# Altium footprint library Tesis.PcbLib: 24 footprints (part 2 of 2)
Each footprint in its own frame and in the unit in brackets; x right, y up, seen from the top. Pads: shape width x height; smd on the part's side, far side on the other; paste and mask are expansions set on the pad; w line width, h text height; cw(c..) or ccw(c..) is an arc to the next point about the centre after c.
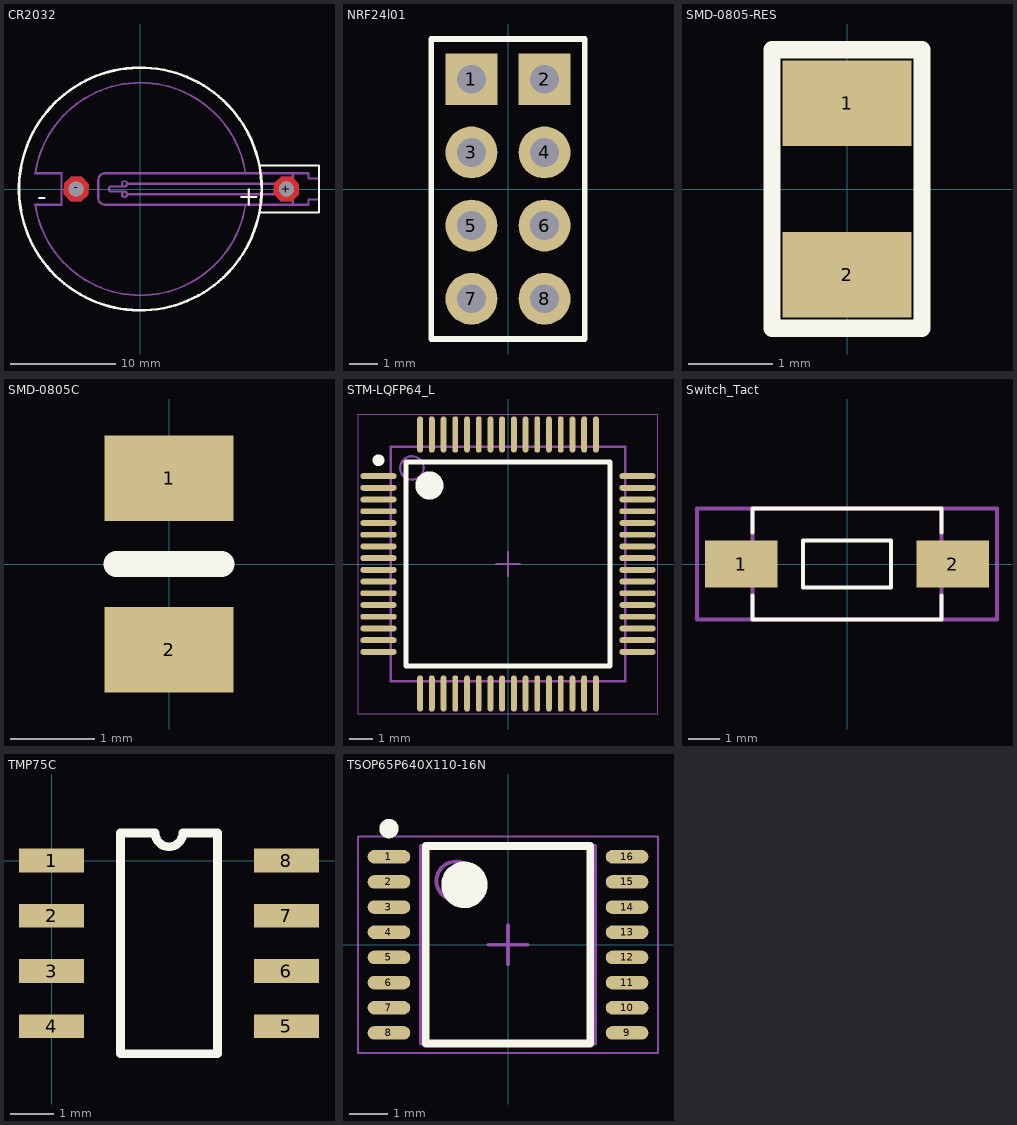
[diagram p1: the footprints below, top view; thin cyan lines are the x and y axes]

## CR2032 [mil]
pads (2):
  round 56 hole 56: +(547.24,0) -(-240.16,0)
Top Layer:
  region: -193.17,17.1 -219.03,45.32 -257.26,46.98 -285.47,21.13 -287.14,-17.1 -261.29,-45.32 -223.06,-46.98 -194.84,-21.13
  region: 594.23,17.1 568.38,45.32 530.14,46.98 501.93,21.13 500.26,-17.1 526.11,-45.32 564.35,-46.98 592.56,-21.13
Bottom Layer:
  region: -193.17,17.1 -219.03,45.32 -257.26,46.98 -285.47,21.13 -287.14,-17.1 -261.29,-45.32 -223.06,-46.98 -194.84,-21.13
  region: 594.23,17.1 568.38,45.32 530.14,46.98 501.93,21.13 500.26,-17.1 526.11,-45.32 564.35,-46.98 592.56,-21.13
Top Overlay:
  circle w10: c0,0 r454.46
  lines w8: 452.76,-87.8 669.29,-87.8 669.29,87.8 452.76,87.8
  text "-" at -385.23,-62.88 h73.82
  text "+" at 364.96,-62.8 h73.82
Mechanical 1:
  circle w8: c-59.21,-19.76 r10
  circle w5: c-59.21,19.76 r10
  lines w5: -118.11,-0.16 -118.11,0.16 ; -49.21,-19.84 -49.21,-19.68
  lines w7: -393.2,-62.28 ccw(c0,0) 393.2,-62.28 ; -393.2,62.28 cw(c0,0) 393.2,62.28
  lines w8: -393.7,-59.06 -295.28,-59.06 -295.28,59.06 -393.7,59.06 ; -118.11,-0.16 cw(c-108.11,-0.16) -108.11,9.84 -59.21,9.84 ccw(c-59.21,19.84) -49.21,19.67 ; -118.11,0.16 ccw(c-108.11,0.16) -108.11,-9.84 -59.21,-9.84 cw(c-59.21,-19.84) -49.21,-19.67 ; -49.21,-19.68 570.87,-19.68 ; -49.21,19.84 -49.21,19.68 570.87,19.68 ; 669.29,-39.37 629.92,-39.37 629.92,-59.06 570.87,-59.06 ; 669.29,39.37 629.92,39.37 629.92,59.06 570.87,59.06 ; 570.87,-59.06 393.7,-59.06 -132.48,-59.06 cw(c-132.48,-34.06) -157.48,-34.06 -157.48,34.06 cw(c-132.48,34.06) -132.48,59.06 393.7,59.06 570.87,59.06 ; 570.87,-59.06 570.87,-19.68 ; 570.87,-19.68 570.87,19.68 ; 570.87,19.68 570.87,59.06
Multi-Layer:
  region: -193.17,17.1 -219.03,45.32 -257.26,46.98 -285.47,21.13 -287.14,-17.1 -261.29,-45.32 -223.06,-46.98 -194.84,-21.13
  region: 594.23,17.1 568.38,45.32 530.14,46.98 501.93,21.13 500.26,-17.1 526.11,-45.32 564.35,-46.98 592.56,-21.13
3D body "User Library-CR 2032 (Battery Holder).step": height 218.5, standoff -196.85, extent -447.83,-447.83 682.09,447.84

## NRF24l01 [mm] "2.4 Ghz Transiever by Nordic."
height 8.54
pads (8):
  rect 1.8x1.8 hole 1: 1(-1.27,3.81) 2(1.27,3.81)
  round 1.8 hole 1: 3(-1.27,1.27) 4(1.27,1.27) 5(-1.27,-1.27) 6(1.27,-1.27) 7(-1.27,-3.81) 8(1.27,-3.81)
Top Overlay:
  lines w0.2: -2.667,-5.207 -2.667,5.207 2.667,5.207 2.667,-5.207 -2.667,-5.207
3D body "1x4x2.54 Pin Header TH  V.STEP": height 8.55, standoff -2.99, extent -2.54,-5.08 0,5.08
3D body "1x4x2.54 Pin Header TH  V.STEP": height 8.55, standoff -2.99, extent 0,-5.08 2.54,5.08

## SMD-0805-RES [mil]
pads (2):
  rect 60x40 smd: 1(0,40) 2(0,-40)
Top Overlay:
  lines w8: -35,-65 -35,65 35,65 35,-65 -35,-65
3D body "SW3dPS-0805 SMD Resistor.STEP": height 30.79, standoff 0, extent -23.6,-39.36 25.6,39.38

## SMD-0805C [mil]
pads (2):
  rect 60x40 smd: 1(0,40) 2(0,-40)
Top Overlay:
  lines w12: -24.6,0.01 24.6,0.01
3D body "capacitor 0805.step": height 35.43, standoff 0, extent -24.6,-39.36 24.6,39.38

## STM-LQFP64_L [mm] "Thin QFP, 64-Leads, Body 10x10mm, Pitch 0.5mm, IPC High Density"
height 1.6
pads (64):
  oval 1.55x0.25 smd: 1(-5.525,3.75) 2(-5.525,3.25) 3(-5.525,2.75) 4(-5.525,2.25) 5(-5.525,1.75) 6(-5.525,1.25) 7(-5.525,0.75) 8(-5.525,0.25) 9(-5.525,-0.25) 10(-5.525,-0.75) 11(-5.525,-1.25) 12(-5.525,-1.75) 13(-5.525,-2.25) 14(-5.525,-2.75) 15(-5.525,-3.25) 16(-5.525,-3.75) 33(5.525,-3.75) 34(5.525,-3.25) 35(5.525,-2.75) 36(5.525,-2.25) 37(5.525,-1.75) 38(5.525,-1.25) 39(5.525,-0.75) 40(5.525,-0.25) 41(5.525,0.25) 42(5.525,0.75) 43(5.525,1.25) 44(5.525,1.75) 45(5.525,2.25) 46(5.525,2.75) 47(5.525,3.25) 48(5.525,3.75)
  oval 0.25x1.55 smd: 17(-3.75,-5.525) 18(-3.25,-5.525) 19(-2.75,-5.525) 20(-2.25,-5.525) 21(-1.75,-5.525) 22(-1.25,-5.525) 23(-0.75,-5.525) 24(-0.25,-5.525) 25(0.25,-5.525) 26(0.75,-5.525) 27(1.25,-5.525) 28(1.75,-5.525) 29(2.25,-5.525) 30(2.75,-5.525) 31(3.25,-5.525) 32(3.75,-5.525) 49(3.75,5.525) 50(3.25,5.525) 51(2.75,5.525) 52(2.25,5.525) 53(1.75,5.525) 54(1.25,5.525) 55(0.75,5.525) 56(0.25,5.525) 57(-0.25,5.525) 58(-0.75,5.525) 59(-1.25,5.525) 60(-1.75,5.525) 61(-2.25,5.525) 62(-2.75,5.525) 63(-3.25,5.525) 64(-3.75,5.525)
Top Overlay:
  circle w0.25: c-5.525,4.425 r0.125
  circle w0.6: c-3.35,3.35 r0.3
  lines w0.2: -4.35,-4.35 -4.35,4.35 4.35,4.35 4.35,-4.35 -4.35,-4.35
Mechanical 13:
  circle w0.1: c-4.1,4.1 r0.5
  lines w0.1: -5,-5 -5,5 5,5 5,-5 -5,-5
Mechanical 15:
  lines w0.05: -6.4,-6.4 -6.4,6.4 6.4,6.4 6.4,-6.4 -6.4,-6.4
  lines w0.1: -0.5,0 0.5,0 ; 0,-0.5 0,0.5
3D body: height 1.6, standoff 0.05, extent -5,-5 5,5

## Switch_Tact [mm] "6.0*3.5mm vertical type, SMD, height 4.3mm, salmon actuator, 360gf, T&R"
height 4.3
pads (2):
  rect 2.3x1.5 smd: 1(-3.35,0) 2(3.35,0)
Top Overlay:
  lines w0.127: -3,-1 -3,-1.75 ; 3,1 3,1.75 ; -3,-1.75 3,-1.75 3,-1 ; -3,-1.75 -3,-1.75 ; -3,1 -3,1.75 3,1.75 ; -3,1 -3,1 ; 3,-1 3,-1 ; 3,1.75 3,1.75 ; -1.4,-0.75 -1.4,0.75 1.4,0.75 1.4,-0.75 -1.4,-0.75
Mechanical 13:
  lines w0.127: -3,-1.75 3,-1.75 3,1.75 -3,1.75 -3,-1.75
Mechanical 15:
  lines w0.127: -4.75,-1.75 -4.75,1.75 4.75,1.75 4.75,-1.75 -4.75,-1.75
3D body "User Library-Tact switch 1181_3.step": height 2.5, standoff 0, extent -4,-1.8 4,1.8

## TMP75C [mm]
pads (8):
  rect 1.5x0.55 smd: 1(0,0) 2(0,-1.27) 3(0,-2.54) 4(0,-3.81) 5(5.4,-3.81) 6(5.4,-2.54) 7(5.4,-1.27) 8(5.4,0)
Top Overlay:
  lines w0.2: 1.585,-4.445 3.815,-4.445 3.815,0.635 3.017,0.635 cw(c2.7,0.635) 2.382,0.635 1.585,0.635 1.585,-4.445
3D body "D0008A.stp": height 1.63, standoff 0, extent -0.3,-4.375 5.7,0.525

## TSOP65P640X110-16N [mm] "TSOP, 16-Leads, Body 5.00x4.40mm, Pitch 0.65mm, IPC Medium Density"
height 1.1
pads (16):
  oval 1.1x0.35 smd: 1(-3.075,2.275) 2(-3.075,1.625) 3(-3.075,0.975) 4(-3.075,0.325) 5(-3.075,-0.325) 6(-3.075,-0.975) 7(-3.075,-1.625) 8(-3.075,-2.275) 9(3.075,-2.275) 10(3.075,-1.625) 11(3.075,-0.975) 12(3.075,-0.325) 13(3.075,0.325) 14(3.075,0.975) 15(3.075,1.625) 16(3.075,2.275)
Top Overlay:
  circle w0.6: c-1.125,1.55 r0.3
  circle w0.25: c-3.075,3 r0.125
  lines w0.2: -2.125,-2.55 2.125,-2.55 2.125,2.55 -2.125,2.55 -2.125,-2.55
Mechanical 13:
  circle w0.1: c-1.35,1.65 r0.5
  lines w0.1: -2.25,-2.55 2.25,-2.55 2.25,2.55 -2.25,2.55 -2.25,-2.55
Mechanical 15:
  lines w0.05: -3.875,-2.8 3.875,-2.8 3.875,2.8 -3.875,2.8 -3.875,-2.8
  lines w0.1: -0.5,0 0.5,0 ; 0,-0.5 0,0.5
3D body "TSSOP16.stp": height 1.11, standoff 0.01, extent -3.342,-2.551 3.088,2.551